# EAGLE library part LMZ12001 (library SparkFun-PowerIC)
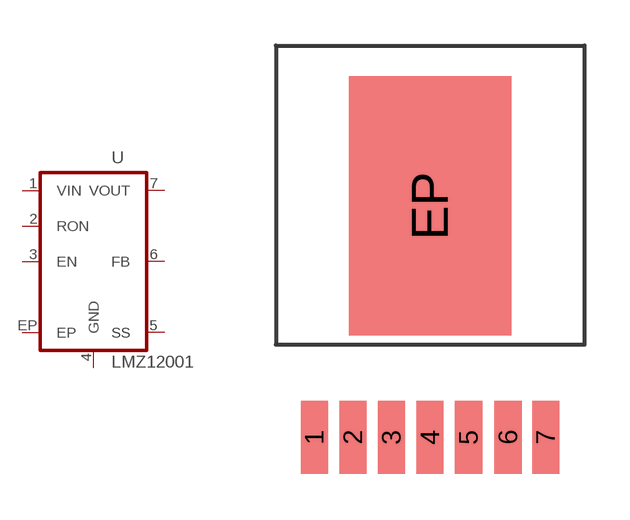
[diagram p0: symbol with the pads of TO-PMOD-7; footprint TO-PMOD-7]

Designator prefix -

## LMZ12001  [TO-PMOD-7]
1  VIN  pwr
2  RON  pas
3  EN  pas
4  GND  pwr
5  SS  pas
6  FB  pas
7  VOUT  pwr
EP  EP  pas

## Footprint TO-PMOD-7 (pad centres in mm)
7-Lead package for National voltage switchers (LMZ14203)
smd 0.89 x 2.41: 1 -3.81,-7.63; 2 -2.54,-7.63; 3 -1.27,-7.63; 4 0,-7.63; 5 1.27,-7.63; 6 2.57,-7.63; 7 3.81,-7.63
smd 5.35 x 8.54: EP 0,0